# EAGLE library part MMA7455L (library X893)
http://www.terraelectronica.ru/pdf/FRS/MMA7455L.pdf
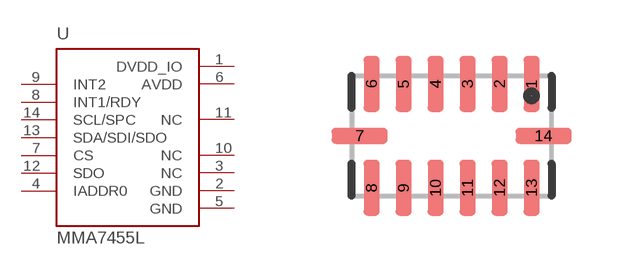
[diagram p34: symbol with the pads of LGA14; footprint LGA14]

Designator prefix U

## MMA7455L  [LGA14]
1  DVDD_IO  pwr
2  GND  pwr
3  NC  pas
4  IADDR0  in
5  GND  pwr
6  AVDD  pwr
7  CS  in
8  INT1/RDY  out
9  INT2  out
10  NC  pas
11  NC  pas
12  SDO  hiz
13  SDA/SDI/SDO
14  SCL/SPC  in

## Footprint LGA14 (pad centres in mm)
smd 0.4 x 1.4: 1 2,1.3; 2 1.2,1.3; 3 0.4,1.3; 4 -0.4,1.3; 5 -1.2,1.3; 6 -2,1.3; 8 -2,-1.3; 9 -1.2,-1.3; 10 -0.4,-1.3; 11 0.4,-1.3; 12 1.2,-1.3; 13 2,-1.3
smd 1.4 x 0.4: 7 -2.3,0; 14 2.3,0